# EAGLE library part 61302621121 (library Board-to-Board (rev18a))
WR-PHD 2.54mm Dual Pin Header, 26 Pins =>Code : Con_BTB_PHD_2.54_2_61302621121 <http://katalog.we-online.de/media/images/eican/Con_BTB_PHD_2.54_2_6130xx21121_pf2.jpg> Details see: http://katalog.we-online.de/en/em/613_0xx_211_21 Created 2014-05-29, Karrer Zheng 2014 (C) Würth Elektronik
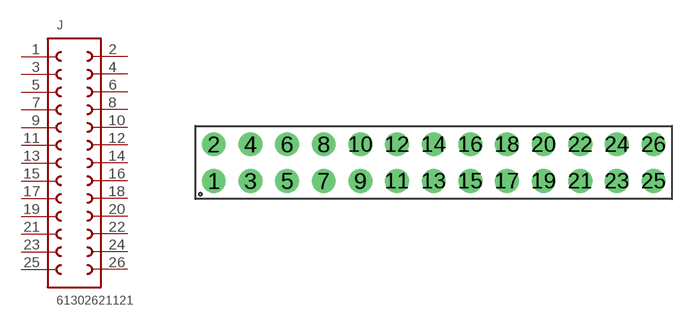
[diagram p28: symbol with the pads of 61302621121; footprint 61302621121]

Designator prefix J

## 61302621121  [61302621121]
1  1  pas
2  26  pas
3  2  pas
4  25  pas
5  3  pas
6  24  pas
7  4  pas
8  23  pas
9  5  pas
10  22  pas
11  6  pas
12  21  pas
13  7  pas
14  20  pas
15  8  pas
16  19  pas
17  9  pas
18  18  pas
19  10  pas
20  17  pas
21  11  pas
22  16  pas
23  12  pas
24  15  pas
25  13  pas
26  14  pas

## Footprint 61302621121 (pad centres in mm)
WR-PHD 2.54mm Dual Pin Header, 26 Pins
drill 1.1: 1 -15.24,-1.27; 2 -15.24,1.27; 3 -12.7,-1.27; 4 -12.7,1.27; 5 -10.16,-1.27; 6 -10.16,1.27; 7 -7.62,-1.27; 8 -7.62,1.27; 9 -5.08,-1.27; 10 -5.08,1.27; 11 -2.54,-1.27; 12 -2.54,1.27; 13 0,-1.27; 14 0,1.27; 15 2.54,-1.27; 16 2.54,1.27; 17 5.08,-1.27; 18 5.08,1.27; 19 7.62,-1.27; 20 7.62,1.27; 21 10.16,-1.27; 22 10.16,1.27; 23 12.7,-1.27; 24 12.7,1.27; 25 15.24,-1.27; 26 15.24,1.27